# EAGLE library part GY-63 (library skydrop)
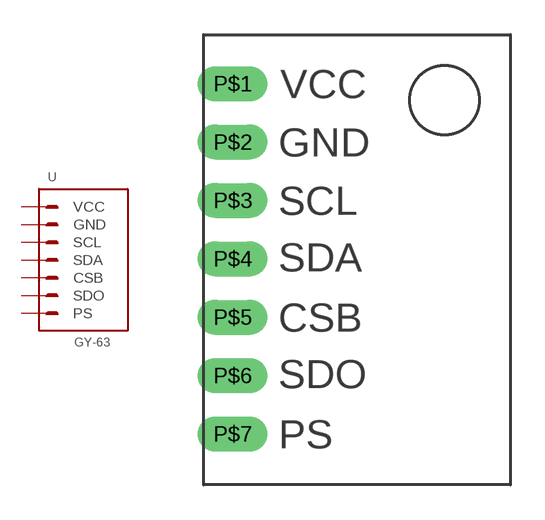
[diagram p3: symbol with the pads of GY-63; footprint GY-63]

Designator prefix -

## GY-63  [GY-63]
P$1  VCC
P$2  GND
P$3  SCL
P$4  SDA
P$5  CSB
P$6  SDO
P$7  PS

## Footprint GY-63 (pad centres in mm)
Small Outline Transistor
drill 1.016 long: P$1 1.27,17.462; P$2 1.27,14.922; P$3 1.27,12.383; P$4 1.27,9.842; P$5 1.27,7.303; P$6 1.27,4.763; P$7 1.27,2.223